# EAGLE library part 2EHDCR-5.08-10P (library Main-board)
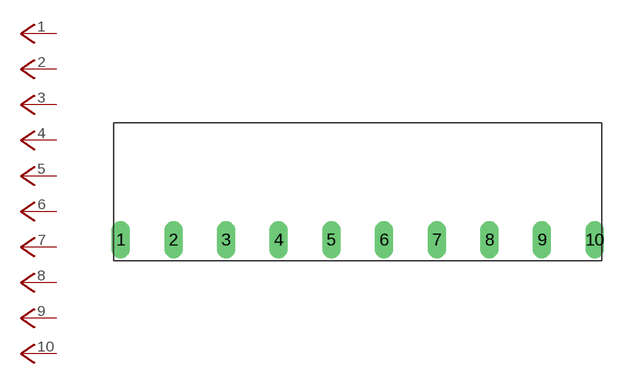
[diagram p1: symbol with the pads of 2EHDCR-5.08-10P; footprint 2EHDCR-5.08-10P]

Designator prefix X; gates G$1=MALE G$2=MALE G$3=MALE G$4=MALE G$5=MALE G$6=MALE G$7=MALE G$8=MALE G$9=MALE G$10=MALE

## 2EHDCR-5.08-10P  [2EHDCR-5.08-10P]
1  G$1:1  pas
2  G$2:1  pas
3  G$3:1  pas
4  G$4:1  pas
5  G$5:1  pas
6  G$6:1  pas
7  G$7:1  pas
8  G$8:1  pas
9  G$9:1  pas
10  G$10:1  pas

## Footprint 2EHDCR-5.08-10P (pad centres in mm)
Ningbo screw treminal
drill 1.2 long: 1 0,0; 2 5.08,0; 3 10.16,0; 4 15.24,0; 5 20.32,0; 6 25.4,0; 7 30.48,0; 8 35.56,0; 9 40.64,0; 10 45.72,0